# EAGLE library part FPF132X (library Eric Navarrete Custom Parts Feb 2019)
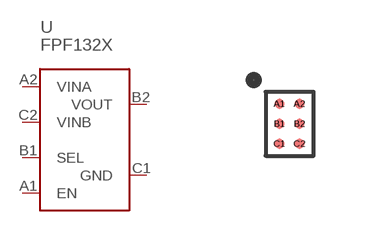
[diagram p38: symbol with the pads of FPF132X; footprint FPF132X]

Designator prefix U

## FPF132X  [FPF132X]
A1  EN
A2  VINA
B1  SEL
B2  VOUT
C1  GND
C2  VINB

## Footprint FPF132X (pad centres in mm)
smd 0.25 x 0.25: A1 -0.25,0.5; A2 0.25,0.5; B1 -0.25,0; B2 0.25,0; C1 -0.25,-0.5; C2 0.25,-0.5